# EAGLE library part 61303625721 (library Wurth_Elektronik2)
WR-PHD 2.54mm Dual Socket Header Bottom Entry, 36 Pins =>Code : Con_BTB_SHD_2.54_2_61303625721 <http://katalog.we-online.de/media/images/eican/Con_BTB_SHD_2.54_2_6130xx25721_pf2.jpg> Details see: http://katalog.we-online.de/en/em/613_0xx_257_21 Created 2014-05-30, Karrer Zheng 2014 (C) Würth Elektronik
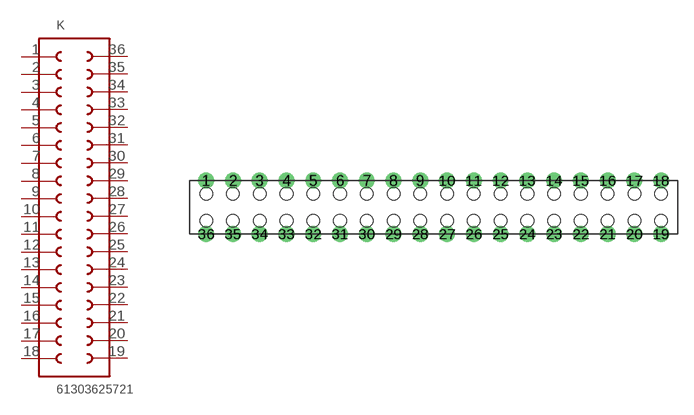
[diagram p167: symbol with the pads of 61303625721; footprint 61303625721]

Designator prefix K

## 61303625721  [61303625721]
1  1  pas
2  2  pas
3  3  pas
4  4  pas
5  5  pas
6  6  pas
7  7  pas
8  8  pas
9  9  pas
10  10  pas
11  11  pas
12  12  pas
13  13  pas
14  14  pas
15  15  pas
16  16  pas
17  17  pas
18  18  pas
19  19  pas
20  20  pas
21  21  pas
22  22  pas
23  23  pas
24  24  pas
25  25  pas
26  26  pas
27  27  pas
28  28  pas
29  29  pas
30  30  pas
31  31  pas
32  32  pas
33  33  pas
34  34  pas
35  35  pas
36  36  pas

## Footprint 61303625721 (pad centres in mm)
WR-PHD 2.54mm Dual Socket Header Bottom Entry, 36 Pins
drill 1: 1 -20.32,2.54; 2 -17.78,2.54; 3 -15.24,2.54; 4 -12.7,2.54; 5 -10.16,2.54; 6 -7.62,2.54; 7 -5.08,2.54; 8 -2.54,2.54; 9 0,2.54; 10 2.54,2.54; 11 5.08,2.54; 12 7.62,2.54; 13 10.16,2.54; 14 12.7,2.54; 15 15.24,2.54; 16 17.78,2.54; 17 20.32,2.54; 18 22.86,2.54; 19 22.86,-2.54; 20 20.32,-2.54; 21 17.78,-2.54; 22 15.24,-2.54; 23 12.7,-2.54; 24 10.16,-2.54; 25 7.62,-2.54; 26 5.08,-2.54; 27 2.54,-2.54; 28 0,-2.54; 29 -2.54,-2.54; 30 -5.08,-2.54; 31 -7.62,-2.54; 32 -10.16,-2.54; 33 -12.7,-2.54; 34 -15.24,-2.54; 35 -17.78,-2.54; 36 -20.32,-2.54
hole 1.2 at -20.32,1.27
hole 1.2 at -17.78,1.27
hole 1.2 at -15.24,1.27
hole 1.2 at -12.7,1.27
hole 1.2 at -10.16,1.27
hole 1.2 at -7.62,1.27
hole 1.2 at -5.08,1.27
hole 1.2 at -2.54,1.27
hole 1.2 at 0,1.27
hole 1.2 at 2.54,1.27
hole 1.2 at 5.08,1.27
hole 1.2 at 7.62,1.27
hole 1.2 at 10.16,1.27
hole 1.2 at -20.32,-1.27
hole 1.2 at -17.78,-1.27
hole 1.2 at -15.24,-1.27
hole 1.2 at -12.7,-1.27
hole 1.2 at -10.16,-1.27
hole 1.2 at -7.62,-1.27
hole 1.2 at -5.08,-1.27
hole 1.2 at -2.54,-1.27
hole 1.2 at 0,-1.27
hole 1.2 at 2.54,-1.27
hole 1.2 at 5.08,-1.27
hole 1.2 at 7.62,-1.27
hole 1.2 at 10.16,-1.27
hole 1.2 at 12.7,1.27
hole 1.2 at 15.24,1.27
hole 1.2 at 12.7,-1.27
hole 1.2 at 15.24,-1.27
hole 1.2 at 17.78,1.27
hole 1.2 at 17.78,-1.27
hole 1.2 at 20.32,1.27
hole 1.2 at 20.32,-1.27
hole 1.2 at 22.86,1.27
hole 1.2 at 22.86,-1.27